# Altium footprint library Axial 1.0.PcbLib: 1 footprints
Each footprint in its own frame and in the unit in brackets; x right, y up, seen from the top. Pads: shape width x height; smd on the part's side, far side on the other; paste and mask are expansions set on the pad; w line width, h text height; cw(c..) or ccw(c..) is an arc to the next point about the centre after c.
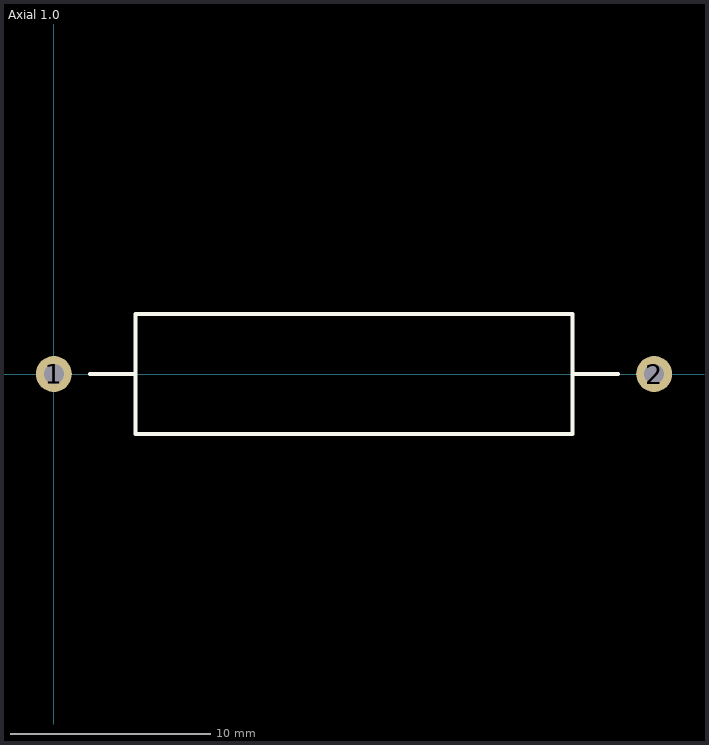
[diagram p0: the footprint, top view; thin cyan lines are the x and y axes]

## Axial 1.0 [mm]
pads (2):
  round 1.8 hole 1: 1(0,0) 2(30,0)
Top Overlay:
  lines w0.2: 1.8,0 4.075,0 ; 25.925,0 28.2,0 ; 4.075,0 4.075,3 25.925,3 25.925,-3 4.075,-3 4.075,0